# EAGLE library part SW-KA03-2 (library _RoweTel)
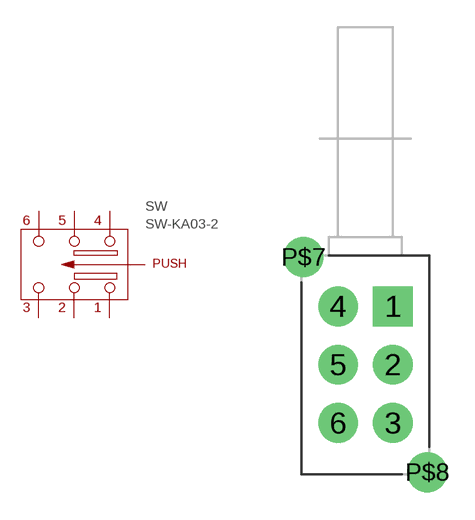
[diagram p67: symbol with the pads of SW-KA03-2; footprint SW-KA03-2]

Designator prefix SW

## SW-KA03-2  [SW-KA03-2]
1  1
2  2
3  3
4  4
5  5
6  6

## Footprint SW-KA03-2 (pad centres in mm)
drill 1.3 pad 2.184 square: 1 1.5,3.2
drill 1.3 pad 2.184: 2 1.5,0; 3 1.5,-3.2; 4 -1.5,3.2; 5 -1.5,0; 6 -1.5,-3.2; P$7 -3.4,5.9; P$8 3.4,-5.9